# EAGLE library part 555_TIMER (library HyTechDevices)
Standard 555 Timer Fairchild Semiconductor LM555CN Texas Instruments LM555CN/NOPB
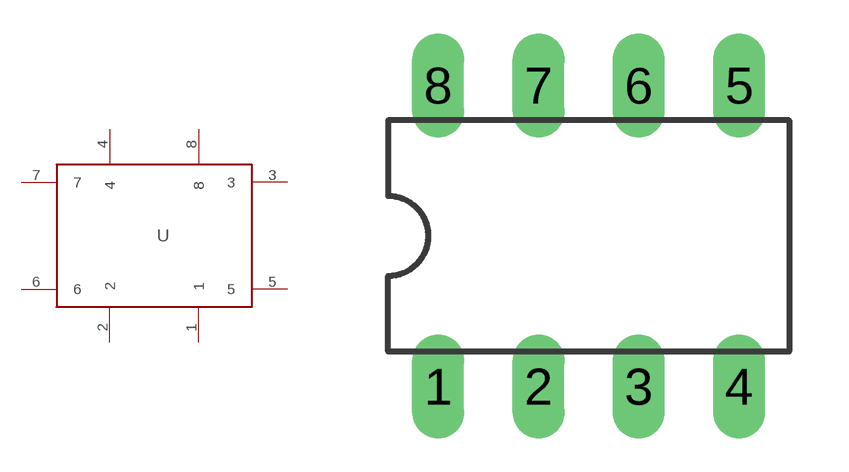
[diagram p11: symbol with the pads of DIL08; footprint DIL08]

Designator prefix -

## 555_TIMER  [DIL08]
1  1
2  2
3  3
4  4
5  5
6  6
7  7
8  8

## Footprint DIL08 (pad centres in mm)
Dual In Line Package
drill 0.813 long: 1 -3.81,-3.81; 2 -1.27,-3.81; 3 1.27,-3.81; 4 3.81,-3.81; 5 3.81,3.81; 6 1.27,3.81; 7 -1.27,3.81; 8 -3.81,3.81